# Altium schematic symbol library Memory_EEPROM.SchLib: 82 symbols
Pins are listed as number, name and electrical type; pins without a type are passive.

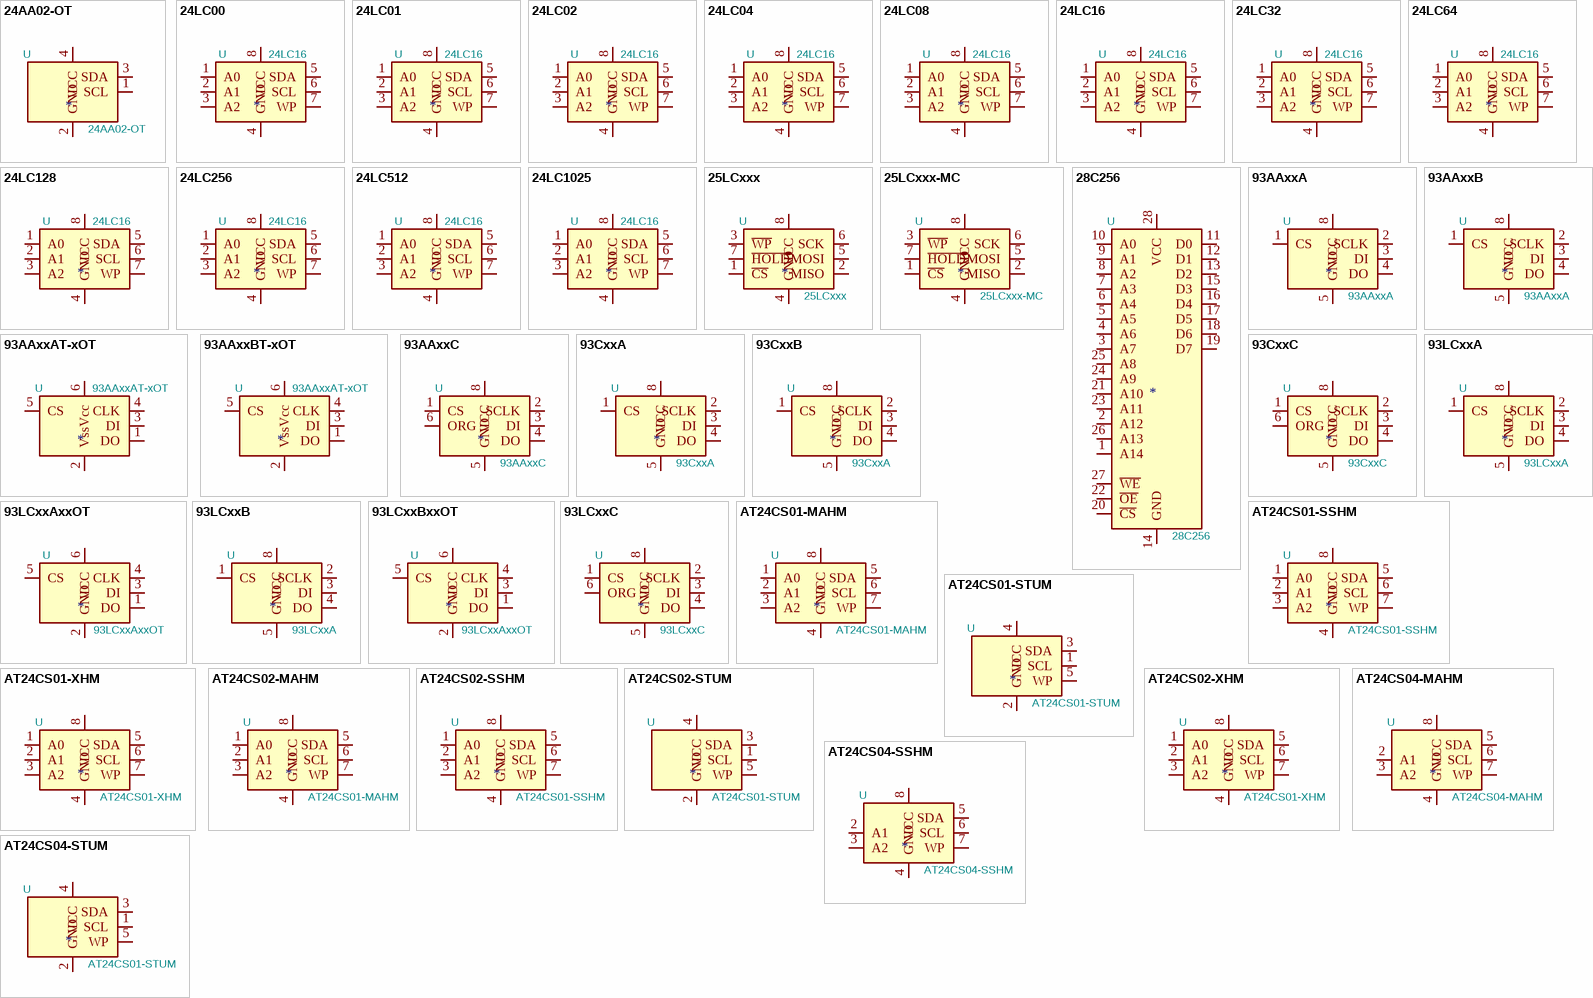
[diagram p0: symbols 24AA02-OT to AT24CS04-STUM]

## 24AA02-OT
designator U  value 24AA02-OT
Footprint: Package_TO_SOT_SMD:SOT-23-5
footprint SOT-23-5
pins: 1 SCL, 2 GND, 3 SDA, 4 VCC, 5 NC hidden

## 24LC00
designator U  value 24LC16
pins: 1 A0, 2 A1, 3 A2, 4 GND, 5 SDA, 6 SCL, 7 WP, 8 VCC

## 24LC01
designator U  value 24LC16
pins: 1 A0, 2 A1, 3 A2, 4 GND, 5 SDA, 6 SCL, 7 WP, 8 VCC

## 24LC02
designator U  value 24LC16
pins: 1 A0, 2 A1, 3 A2, 4 GND, 5 SDA, 6 SCL, 7 WP, 8 VCC

## 24LC04
designator U  value 24LC16
pins: 1 A0, 2 A1, 3 A2, 4 GND, 5 SDA, 6 SCL, 7 WP, 8 VCC

## 24LC08
designator U  value 24LC16
pins: 1 A0, 2 A1, 3 A2, 4 GND, 5 SDA, 6 SCL, 7 WP, 8 VCC

## 24LC16
designator U  value 24LC16
pins: 1 A0, 2 A1, 3 A2, 4 GND, 5 SDA, 6 SCL, 7 WP, 8 VCC

## 24LC32
designator U  value 24LC16
pins: 1 A0, 2 A1, 3 A2, 4 GND, 5 SDA, 6 SCL, 7 WP, 8 VCC

## 24LC64
designator U  value 24LC16
pins: 1 A0, 2 A1, 3 A2, 4 GND, 5 SDA, 6 SCL, 7 WP, 8 VCC

## 24LC128
designator U  value 24LC16
pins: 1 A0, 2 A1, 3 A2, 4 GND, 5 SDA, 6 SCL, 7 WP, 8 VCC

## 24LC256
designator U  value 24LC16
pins: 1 A0, 2 A1, 3 A2, 4 GND, 5 SDA, 6 SCL, 7 WP, 8 VCC

## 24LC512
designator U  value 24LC16
pins: 1 A0, 2 A1, 3 A2, 4 GND, 5 SDA, 6 SCL, 7 WP, 8 VCC

## 24LC1025
designator U  value 24LC16
pins: 1 A0, 2 A1, 3 A2, 4 GND, 5 SDA, 6 SCL, 7 WP, 8 VCC

## 25LCxxx
designator U  value 25LCxxx
pins: 1 ~{CS}, 2 MISO, 3 ~{WP}, 4 GND, 5 MOSI, 6 SCK, 7 ~{HOLD}, 8 VCC

## 25LCxxx-MC
designator U  value 25LCxxx-MC
Footprint: Package_DFN_QFN:DFN-8-1EP_3x2mm_P0.5mm_EP1.75x1.45mm
footprint DFN-8-1EP_3x2mm_P0.5mm_EP1.75x1.45mm
pins: 1 ~{CS}, 2 MISO, 3 ~{WP}, 4 GND, 5 MOSI, 6 SCK, 7 ~{HOLD}, 8 VCC, 9 GND hidden

## 28C256
designator U  value 28C256
pins: 1 A14, 2 A12, 3 A7, 4 A6, 5 A5, 6 A4, 7 A3, 8 A2, 9 A1, 10 A0, 11 D0, 12 D1, 13 D2, 14 GND, 15 D3, 16 D4, 17 D5, 18 D6, 19 D7, 20 ~{CS}, 21 A10, 22 ~{OE}, 23 A11, 24 A9, 25 A8, 26 A13, 27 ~{WE}, 28 VCC

## 93AAxxA
designator U  value 93AAxxA
pins: 1 CS, 2 SCLK, 3 DI, 4 DO, 5 GND, 6 NC hidden, 7 NC hidden, 8 VCC

## 93AAxxAT-xOT
designator U  value 93AAxxAT-xOT
Footprint: Package_TO_SOT_SMD:SOT-23-6
footprint SOT-23-6
pins: 1 DO, 2 Vss, 3 DI, 4 CLK, 5 CS, 6 Vсс

## 93AAxxB
designator U  value 93AAxxA
pins: 1 CS, 2 SCLK, 3 DI, 4 DO, 5 GND, 6 NC hidden, 7 NC hidden, 8 VCC

## 93AAxxBT-xOT
designator U  value 93AAxxAT-xOT
Footprint: Package_TO_SOT_SMD:SOT-23-6
footprint SOT-23-6
pins: 1 DO, 2 Vss, 3 DI, 4 CLK, 5 CS, 6 Vсс

## 93AAxxC
designator U  value 93AAxxC
pins: 1 CS, 2 SCLK, 3 DI, 4 DO, 5 GND, 6 ORG, 7 NC hidden, 8 VCC

## 93CxxA
designator U  value 93CxxA
pins: 1 CS, 2 SCLK, 3 DI, 4 DO, 5 GND, 6 NC hidden, 7 NC hidden, 8 VCC

## 93CxxB
designator U  value 93CxxA
pins: 1 CS, 2 SCLK, 3 DI, 4 DO, 5 GND, 6 NC hidden, 7 NC hidden, 8 VCC

## 93CxxC
designator U  value 93CxxC
pins: 1 CS, 2 SCLK, 3 DI, 4 DO, 5 GND, 6 ORG, 7 NC hidden, 8 VCC

## 93LCxxA
designator U  value 93LCxxA
pins: 1 CS, 2 SCLK, 3 DI, 4 DO, 5 GND, 6 NC hidden, 7 NC hidden, 8 VCC

## 93LCxxAxxOT
designator U  value 93LCxxAxxOT
Footprint: Package_TO_SOT_SMD:SOT-23-6
footprint SOT-23-6
pins: 1 DO, 2 GND, 3 DI, 4 CLK, 5 CS, 6 VCC

## 93LCxxB
designator U  value 93LCxxA
pins: 1 CS, 2 SCLK, 3 DI, 4 DO, 5 GND, 6 NC hidden, 7 NC hidden, 8 VCC

## 93LCxxBxxOT
designator U  value 93LCxxAxxOT
Footprint: Package_TO_SOT_SMD:SOT-23-6
footprint SOT-23-6
pins: 1 DO, 2 GND, 3 DI, 4 CLK, 5 CS, 6 VCC

## 93LCxxC
designator U  value 93LCxxC
pins: 1 CS, 2 SCLK, 3 DI, 4 DO, 5 GND, 6 ORG, 7 NC hidden, 8 VCC

## AT24CS01-MAHM
designator U  value AT24CS01-MAHM
Footprint: Package_DFN_QFN:DFN-8-1EP_3x2mm_P0.5mm_EP1.3x1.5mm
footprint DFN-8-1EP_3x2mm_P0.5mm_EP1.3x1.5mm
pins: 1 A0, 2 A1, 3 A2, 4 GND, 5 SDA, 6 SCL, 7 WP, 8 VCC

## AT24CS01-SSHM
designator U  value AT24CS01-SSHM
Footprint: Package_SO:SOIC-8_3.9x4.9mm_P1.27mm
footprint SOIC-8_3.9x4.9mm_P1.27mm
pins: 1 A0, 2 A1, 3 A2, 4 GND, 5 SDA, 6 SCL, 7 WP, 8 VCC

## AT24CS01-STUM
designator U  value AT24CS01-STUM
Footprint: Package_TO_SOT_SMD:SOT-23-5
footprint SOT-23-5
pins: 1 SCL, 2 GND, 3 SDA, 4 VCC, 5 WP

## AT24CS01-XHM
designator U  value AT24CS01-XHM
Footprint: Package_SO:TSSOP-8_4.4x3mm_P0.65mm
footprint TSSOP-8_4.4x3mm_P0.65mm
pins: 1 A0, 2 A1, 3 A2, 4 GND, 5 SDA, 6 SCL, 7 WP, 8 VCC

## AT24CS02-MAHM
designator U  value AT24CS01-MAHM
Footprint: Package_DFN_QFN:DFN-8-1EP_3x2mm_P0.5mm_EP1.3x1.5mm
footprint DFN-8-1EP_3x2mm_P0.5mm_EP1.3x1.5mm
pins: 1 A0, 2 A1, 3 A2, 4 GND, 5 SDA, 6 SCL, 7 WP, 8 VCC

## AT24CS02-SSHM
designator U  value AT24CS01-SSHM
Footprint: Package_SO:SOIC-8_3.9x4.9mm_P1.27mm
footprint SOIC-8_3.9x4.9mm_P1.27mm
pins: 1 A0, 2 A1, 3 A2, 4 GND, 5 SDA, 6 SCL, 7 WP, 8 VCC

## AT24CS02-STUM
designator U  value AT24CS01-STUM
Footprint: Package_TO_SOT_SMD:SOT-23-5
footprint SOT-23-5
pins: 1 SCL, 2 GND, 3 SDA, 4 VCC, 5 WP

## AT24CS02-XHM
designator U  value AT24CS01-XHM
Footprint: Package_SO:TSSOP-8_4.4x3mm_P0.65mm
footprint TSSOP-8_4.4x3mm_P0.65mm
pins: 1 A0, 2 A1, 3 A2, 4 GND, 5 SDA, 6 SCL, 7 WP, 8 VCC

## AT24CS04-MAHM
designator U  value AT24CS04-MAHM
Footprint: Package_DFN_QFN:DFN-8-1EP_3x2mm_P0.5mm_EP1.3x1.5mm
footprint DFN-8-1EP_3x2mm_P0.5mm_EP1.3x1.5mm
pins: 2 A1, 3 A2, 4 GND, 5 SDA, 6 SCL, 7 WP, 8 VCC

## AT24CS04-SSHM
designator U  value AT24CS04-SSHM
Footprint: Package_SO:SOIC-8_3.9x4.9mm_P1.27mm
footprint SOIC-8_3.9x4.9mm_P1.27mm
pins: 2 A1, 3 A2, 4 GND, 5 SDA, 6 SCL, 7 WP, 8 VCC

## AT24CS04-STUM
designator U  value AT24CS01-STUM
Footprint: Package_TO_SOT_SMD:SOT-23-5
footprint SOT-23-5
pins: 1 SCL, 2 GND, 3 SDA, 4 VCC, 5 WP

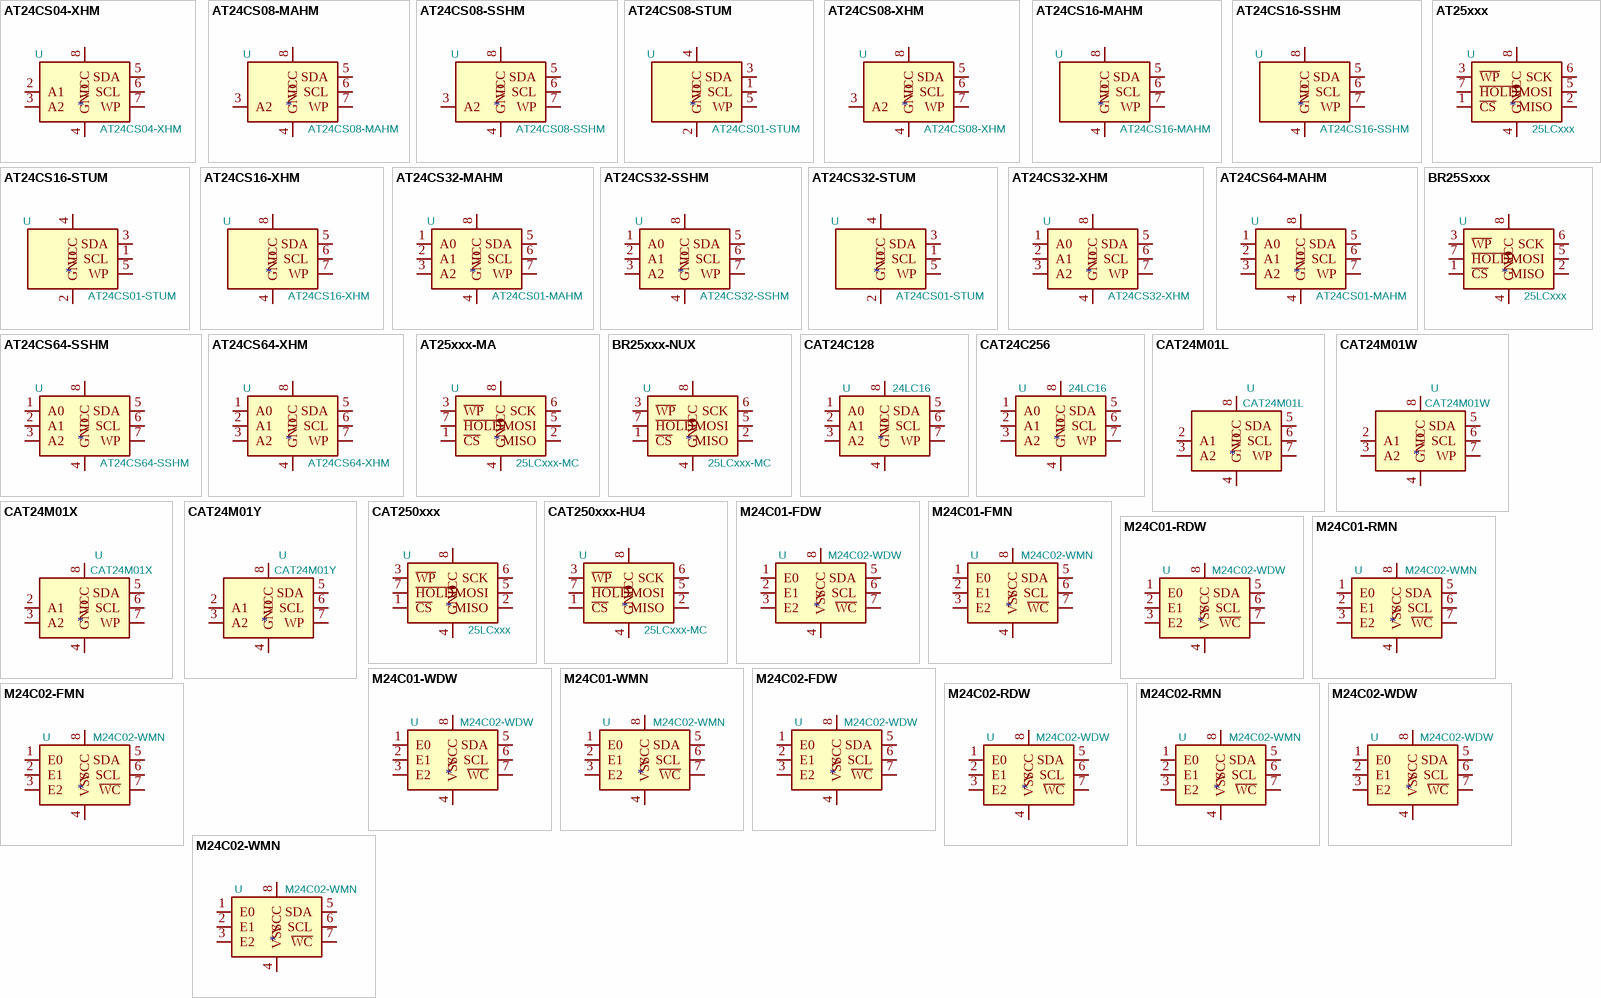
[diagram p1: symbols AT24CS04-XHM to M24C02-WMN]

## AT24CS04-XHM
designator U  value AT24CS04-XHM
Footprint: Package_SO:TSSOP-8_4.4x3mm_P0.65mm
footprint TSSOP-8_4.4x3mm_P0.65mm
pins: 2 A1, 3 A2, 4 GND, 5 SDA, 6 SCL, 7 WP, 8 VCC

## AT24CS08-MAHM
designator U  value AT24CS08-MAHM
Footprint: Package_DFN_QFN:DFN-8-1EP_3x2mm_P0.5mm_EP1.3x1.5mm
footprint DFN-8-1EP_3x2mm_P0.5mm_EP1.3x1.5mm
pins: 3 A2, 4 GND, 5 SDA, 6 SCL, 7 WP, 8 VCC

## AT24CS08-SSHM
designator U  value AT24CS08-SSHM
Footprint: Package_SO:SOIC-8_3.9x4.9mm_P1.27mm
footprint SOIC-8_3.9x4.9mm_P1.27mm
pins: 3 A2, 4 GND, 5 SDA, 6 SCL, 7 WP, 8 VCC

## AT24CS08-STUM
designator U  value AT24CS01-STUM
Footprint: Package_TO_SOT_SMD:SOT-23-5
footprint SOT-23-5
pins: 1 SCL, 2 GND, 3 SDA, 4 VCC, 5 WP

## AT24CS08-XHM
designator U  value AT24CS08-XHM
Footprint: Package_SO:TSSOP-8_4.4x3mm_P0.65mm
footprint TSSOP-8_4.4x3mm_P0.65mm
pins: 3 A2, 4 GND, 5 SDA, 6 SCL, 7 WP, 8 VCC

## AT24CS16-MAHM
designator U  value AT24CS16-MAHM
Footprint: Package_DFN_QFN:DFN-8-1EP_3x2mm_P0.5mm_EP1.3x1.5mm
footprint DFN-8-1EP_3x2mm_P0.5mm_EP1.3x1.5mm
pins: 4 GND, 5 SDA, 6 SCL, 7 WP, 8 VCC

## AT24CS16-SSHM
designator U  value AT24CS16-SSHM
Footprint: Package_SO:SOIC-8_3.9x4.9mm_P1.27mm
footprint SOIC-8_3.9x4.9mm_P1.27mm
pins: 4 GND, 5 SDA, 6 SCL, 7 WP, 8 VCC

## AT24CS16-STUM
designator U  value AT24CS01-STUM
Footprint: Package_TO_SOT_SMD:SOT-23-5
footprint SOT-23-5
pins: 1 SCL, 2 GND, 3 SDA, 4 VCC, 5 WP

## AT24CS16-XHM
designator U  value AT24CS16-XHM
Footprint: Package_SO:TSSOP-8_4.4x3mm_P0.65mm
footprint TSSOP-8_4.4x3mm_P0.65mm
pins: 4 GND, 5 SDA, 6 SCL, 7 WP, 8 VCC

## AT24CS32-MAHM
designator U  value AT24CS01-MAHM
Footprint: Package_DFN_QFN:DFN-8-1EP_3x2mm_P0.5mm_EP1.3x1.5mm
footprint DFN-8-1EP_3x2mm_P0.5mm_EP1.3x1.5mm
pins: 1 A0, 2 A1, 3 A2, 4 GND, 5 SDA, 6 SCL, 7 WP, 8 VCC

## AT24CS32-SSHM
designator U  value AT24CS32-SSHM
Footprint: Package_SO:SOIC-8_3.9x4.9mm_P1.27mm
footprint SOIC-8_3.9x4.9mm_P1.27mm
pins: 1 A0, 2 A1, 3 A2, 4 GND, 5 SDA, 6 SCL, 7 WP, 8 VCC

## AT24CS32-STUM
designator U  value AT24CS01-STUM
Footprint: Package_TO_SOT_SMD:SOT-23-5
footprint SOT-23-5
pins: 1 SCL, 2 GND, 3 SDA, 4 VCC, 5 WP

## AT24CS32-XHM
designator U  value AT24CS32-XHM
Footprint: Package_SO:TSSOP-8_4.4x3mm_P0.65mm
footprint TSSOP-8_4.4x3mm_P0.65mm
pins: 1 A0, 2 A1, 3 A2, 4 GND, 5 SDA, 6 SCL, 7 WP, 8 VCC

## AT24CS64-MAHM
designator U  value AT24CS01-MAHM
Footprint: Package_DFN_QFN:DFN-8-1EP_3x2mm_P0.5mm_EP1.3x1.5mm
footprint DFN-8-1EP_3x2mm_P0.5mm_EP1.3x1.5mm
pins: 1 A0, 2 A1, 3 A2, 4 GND, 5 SDA, 6 SCL, 7 WP, 8 VCC

## AT24CS64-SSHM
designator U  value AT24CS64-SSHM
Footprint: Package_SO:SOIC-8_3.9x4.9mm_P1.27mm
footprint SOIC-8_3.9x4.9mm_P1.27mm
pins: 1 A0, 2 A1, 3 A2, 4 GND, 5 SDA, 6 SCL, 7 WP, 8 VCC

## AT24CS64-XHM
designator U  value AT24CS64-XHM
Footprint: Package_SO:TSSOP-8_4.4x3mm_P0.65mm
footprint TSSOP-8_4.4x3mm_P0.65mm
pins: 1 A0, 2 A1, 3 A2, 4 GND, 5 SDA, 6 SCL, 7 WP, 8 VCC

## AT25xxx
designator U  value 25LCxxx
pins: 1 ~{CS}, 2 MISO, 3 ~{WP}, 4 GND, 5 MOSI, 6 SCK, 7 ~{HOLD}, 8 VCC

## AT25xxx-MA
designator U  value 25LCxxx-MC
Footprint: Package_DFN_QFN:DFN-8-1EP_3x2mm_P0.5mm_EP1.75x1.45mm
footprint DFN-8-1EP_3x2mm_P0.5mm_EP1.75x1.45mm
pins: 1 ~{CS}, 2 MISO, 3 ~{WP}, 4 GND, 5 MOSI, 6 SCK, 7 ~{HOLD}, 8 VCC, 9 GND hidden

## BR25Sxxx
designator U  value 25LCxxx
pins: 1 ~{CS}, 2 MISO, 3 ~{WP}, 4 GND, 5 MOSI, 6 SCK, 7 ~{HOLD}, 8 VCC

## BR25xxx-NUX
designator U  value 25LCxxx-MC
Footprint: Package_DFN_QFN:DFN-8-1EP_3x2mm_P0.5mm_EP1.75x1.45mm
footprint DFN-8-1EP_3x2mm_P0.5mm_EP1.75x1.45mm
pins: 1 ~{CS}, 2 MISO, 3 ~{WP}, 4 GND, 5 MOSI, 6 SCK, 7 ~{HOLD}, 8 VCC, 9 GND hidden

## CAT24C128
designator U  value 24LC16
pins: 1 A0, 2 A1, 3 A2, 4 GND, 5 SDA, 6 SCL, 7 WP, 8 VCC

## CAT24C256
designator U  value 24LC16
pins: 1 A0, 2 A1, 3 A2, 4 GND, 5 SDA, 6 SCL, 7 WP, 8 VCC

## CAT24M01L
designator U  value CAT24M01L
Footprint: Package_DIP:DIP-8_W7.62mm
footprint DIP-8_W7.62mm
pins: 1 NC hidden, 2 A1, 3 A2, 4 GND, 5 SDA, 6 SCL, 7 WP, 8 VCC

## CAT24M01W
designator U  value CAT24M01W
Footprint: Package_SO:SOIC-8_3.9x4.9mm_P1.27mm
footprint SOIC-8_3.9x4.9mm_P1.27mm
pins: 1 NC hidden, 2 A1, 3 A2, 4 GND, 5 SDA, 6 SCL, 7 WP, 8 VCC

## CAT24M01X
designator U  value CAT24M01X
Footprint: Package_SO:SOIC-8W_5.3x5.3mm_P1.27mm
footprint SOIC-8W_5.3x5.3mm_P1.27mm
pins: 1 NC hidden, 2 A1, 3 A2, 4 GND, 5 SDA, 6 SCL, 7 WP, 8 VCC

## CAT24M01Y
designator U  value CAT24M01Y
Footprint: Package_SO:TSSOP-8_4.4x3mm_P0.65mm
footprint TSSOP-8_4.4x3mm_P0.65mm
pins: 1 NC hidden, 2 A1, 3 A2, 4 GND, 5 SDA, 6 SCL, 7 WP, 8 VCC

## CAT250xxx
designator U  value 25LCxxx
pins: 1 ~{CS}, 2 MISO, 3 ~{WP}, 4 GND, 5 MOSI, 6 SCK, 7 ~{HOLD}, 8 VCC

## CAT250xxx-HU4
designator U  value 25LCxxx-MC
Footprint: Package_DFN_QFN:DFN-8-1EP_3x2mm_P0.5mm_EP1.75x1.45mm
footprint DFN-8-1EP_3x2mm_P0.5mm_EP1.75x1.45mm
pins: 1 ~{CS}, 2 MISO, 3 ~{WP}, 4 GND, 5 MOSI, 6 SCK, 7 ~{HOLD}, 8 VCC, 9 GND hidden

## M24C01-FDW
designator U  value M24C02-WDW
Footprint: Package_SO:TSSOP-8_4.4x3mm_P0.65mm
footprint TSSOP-8_4.4x3mm_P0.65mm
pins: 1 E0, 2 E1, 3 E2, 4 VSS, 5 SDA, 6 SCL, 7 ~{WC}, 8 VCC

## M24C01-FMN
designator U  value M24C02-WMN
Footprint: Package_SO:SOIC-8_3.9x4.9mm_P1.27mm
footprint SOIC-8_3.9x4.9mm_P1.27mm
pins: 1 E0, 2 E1, 3 E2, 4 VSS, 5 SDA, 6 SCL, 7 ~{WC}, 8 VCC

## M24C01-RDW
designator U  value M24C02-WDW
Footprint: Package_SO:TSSOP-8_4.4x3mm_P0.65mm
footprint TSSOP-8_4.4x3mm_P0.65mm
pins: 1 E0, 2 E1, 3 E2, 4 VSS, 5 SDA, 6 SCL, 7 ~{WC}, 8 VCC

## M24C01-RMN
designator U  value M24C02-WMN
Footprint: Package_SO:SOIC-8_3.9x4.9mm_P1.27mm
footprint SOIC-8_3.9x4.9mm_P1.27mm
pins: 1 E0, 2 E1, 3 E2, 4 VSS, 5 SDA, 6 SCL, 7 ~{WC}, 8 VCC

## M24C01-WDW
designator U  value M24C02-WDW
Footprint: Package_SO:TSSOP-8_4.4x3mm_P0.65mm
footprint TSSOP-8_4.4x3mm_P0.65mm
pins: 1 E0, 2 E1, 3 E2, 4 VSS, 5 SDA, 6 SCL, 7 ~{WC}, 8 VCC

## M24C01-WMN
designator U  value M24C02-WMN
Footprint: Package_SO:SOIC-8_3.9x4.9mm_P1.27mm
footprint SOIC-8_3.9x4.9mm_P1.27mm
pins: 1 E0, 2 E1, 3 E2, 4 VSS, 5 SDA, 6 SCL, 7 ~{WC}, 8 VCC

## M24C02-FDW
designator U  value M24C02-WDW
Footprint: Package_SO:TSSOP-8_4.4x3mm_P0.65mm
footprint TSSOP-8_4.4x3mm_P0.65mm
pins: 1 E0, 2 E1, 3 E2, 4 VSS, 5 SDA, 6 SCL, 7 ~{WC}, 8 VCC

## M24C02-FMN
designator U  value M24C02-WMN
Footprint: Package_SO:SOIC-8_3.9x4.9mm_P1.27mm
footprint SOIC-8_3.9x4.9mm_P1.27mm
pins: 1 E0, 2 E1, 3 E2, 4 VSS, 5 SDA, 6 SCL, 7 ~{WC}, 8 VCC

## M24C02-RDW
designator U  value M24C02-WDW
Footprint: Package_SO:TSSOP-8_4.4x3mm_P0.65mm
footprint TSSOP-8_4.4x3mm_P0.65mm
pins: 1 E0, 2 E1, 3 E2, 4 VSS, 5 SDA, 6 SCL, 7 ~{WC}, 8 VCC

## M24C02-RMN
designator U  value M24C02-WMN
Footprint: Package_SO:SOIC-8_3.9x4.9mm_P1.27mm
footprint SOIC-8_3.9x4.9mm_P1.27mm
pins: 1 E0, 2 E1, 3 E2, 4 VSS, 5 SDA, 6 SCL, 7 ~{WC}, 8 VCC

## M24C02-WDW
designator U  value M24C02-WDW
Footprint: Package_SO:TSSOP-8_4.4x3mm_P0.65mm
footprint TSSOP-8_4.4x3mm_P0.65mm
pins: 1 E0, 2 E1, 3 E2, 4 VSS, 5 SDA, 6 SCL, 7 ~{WC}, 8 VCC

## M24C02-WMN
designator U  value M24C02-WMN
Footprint: Package_SO:SOIC-8_3.9x4.9mm_P1.27mm
footprint SOIC-8_3.9x4.9mm_P1.27mm
pins: 1 E0, 2 E1, 3 E2, 4 VSS, 5 SDA, 6 SCL, 7 ~{WC}, 8 VCC

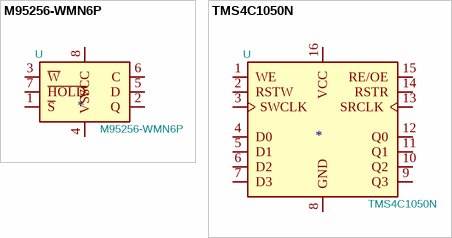
[diagram p2: symbols M95256-WMN6P to TMS4C1050N]

## M95256-WMN6P
designator U  value M95256-WMN6P
Footprint: Package_SO:SOIC-8_3.9x4.9mm_P1.27mm
footprint SOIC-8_3.9x4.9mm_P1.27mm
pins: 1 ~{S}, 2 Q, 3 ~{W}, 4 VSS, 5 D, 6 C, 7 ~{HOLD}, 8 VCC

## TMS4C1050N
designator U  value TMS4C1050N
Footprint: Package_DIP:DIP-16_W7.62mm
footprint DIP-16_W7.62mm
pins: 1 WE, 2 RSTW, 3 SWCLK, 4 D0, 5 D1, 6 D2, 7 D3, 8 GND, 9 Q3, 10 Q2, 11 Q1, 12 Q0, 13 SRCLK, 14 RSTR, 15 RE/OE, 16 VCC